# Altium integrated library 1N4744A.IntLib: 1 symbol
Pins are listed as number, name and electrical type; pins without a type are passive.

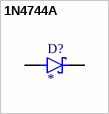
[diagram p0: symbol 1N4744A]

## 1N4744A
designator D?
Zener Diode Single 15V 5% 14Ohm 1000mW 2-Pin DO-41 Bag; MF: onsemi; MP: 1N4744A; SnapEDA_Link: https://www.snapeda.com/parts/1N4744A/Onsemi/view-part/?ref=snap; Package: DO-41 ON Semiconductor; Value: *; Check_prices: https://www.snapeda.com/parts/1N4744A/Onsemi/view-part/?ref=eda
footprint DO41-10
pins: 1 K, 2 A